# EAGLE library part UC37133D (library ti)
Texas Instruments High Side Smart Power Switch 300mA Continuous Output Current 8V - 65V Operation Overload and Short Circuit Protection Power Interruption Protection Low and High Side Internal High Current Clamps When Driving Inductive Loads From TI Document SLUS340 - APRIL 1999
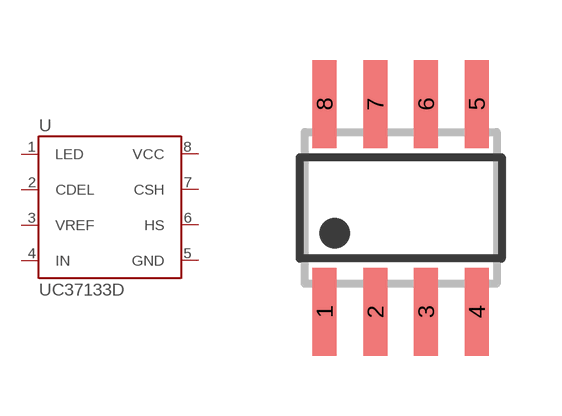
[diagram p5: symbol with the pads of SO-08; footprint SO-08]

Designator prefix U

## UC37133D  [SO-08]
1  LED  out
2  CDEL  in
3  VREF  out
4  IN  hiz
5  GND  pwr
6  HS  pwr
7  CSH  in
8  VCC  pwr

## Footprint SO-08 (pad centres in mm)
Small Outline Integrated Circuit
smd 0.6 x 2.2: 1 -1.905,-2.6; 2 -0.635,-2.6; 3 0.635,-2.6; 4 1.905,-2.6; 5 1.905,2.6; 6 0.635,2.6; 7 -0.635,2.6; 8 -1.905,2.6